# Altium integrated library STMPS2151STR.IntLib: 1 symbol
Pins are listed as number, name and electrical type; pins without a type are passive.

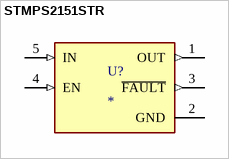
[diagram p0: symbol STMPS2151STR]

## STMPS2151STR
designator U?
Power Switch/Driver 1:1 N-Channel 500mA SOT-23-5; MF: STMicroelectronics; MP: STMPS2151STR; SnapEDA_Link: https://www.snapeda.com/parts/STMPS2151STR/STMicroelectronics/view-part/?ref=snap; Package: SOT-23-5 STMicroelectronics; Value: *; Check_prices: https://www.snapeda.com/parts/STMPS2151STR/STMicroelectronics/view-part/?ref=eda
footprint STMP2151
pins: 1 OUT (out), 2 GND (power), 3 ~{FAULT} (out), 4 EN (in), 5 IN (in)